# Altium schematic symbol library Conn_HIROSE_DF11CZ-16DS-2V_22_eec.SchLib: 1 symbol
Pins are listed as number, name and electrical type; pins without a type are passive.

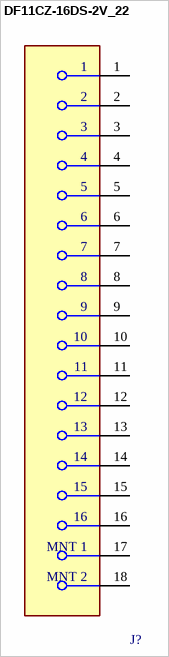
[diagram p0: symbol DF11CZ-16DS-2V_22]

## DF11CZ-16DS-2V_22
designator J?  (value not drawn)
pins: 1, 2, 3, 4, 5, 6, 7, 8, 9, 10, 11, 12, 13, 14, 15, 16, 17 MNT 1, 18 MNT 2